# Altium schematic symbol library SQT-110-01-L-D.SchLib: 1 symbol
Pins are listed as number, name and electrical type; pins without a type are passive.

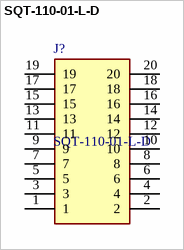
[diagram p0: symbol SQT-110-01-L-D]

## SQT-110-01-L-D
designator J?
Position per row, Receptacle Connector 0.079" (2.00mm) Through Hole Gold,  row height-6.65; Manufacturer_Name: SAMTEC; Geometry.Height: 6.65mm; Mouser Part Number: 200-SQT11001LD; Mouser Price/Stock: https://www.mouser.co.uk/ProductDetail/Samtec/SQT-110-01-L-D?qs=FESYatJ8odJGRXnwU%2FSPUg%3D%3D; Manufacturer_Part_Number: SQT-110-01-L-D; Datasheet Link: https://suddendocs.samtec.com/prints/sqt-1xx-xx-xxx-x-xxx-xxx-mkt.pdf
footprint SQT11001LD
pins: 1, 2, 3, 4, 5, 6, 7, 8, 9, 10, 11, 12, 13, 14, 15, 16, 17, 18, 19, 20